# Altium footprint library xNEO_R_V1.PcbLib: 1 footprints
Each footprint in its own frame and in the unit in brackets; x right, y up, seen from the top. Pads: shape width x height; smd on the part's side, far side on the other; paste and mask are expansions set on the pad; w line width, h text height; cw(c..) or ccw(c..) is an arc to the next point about the centre after c.
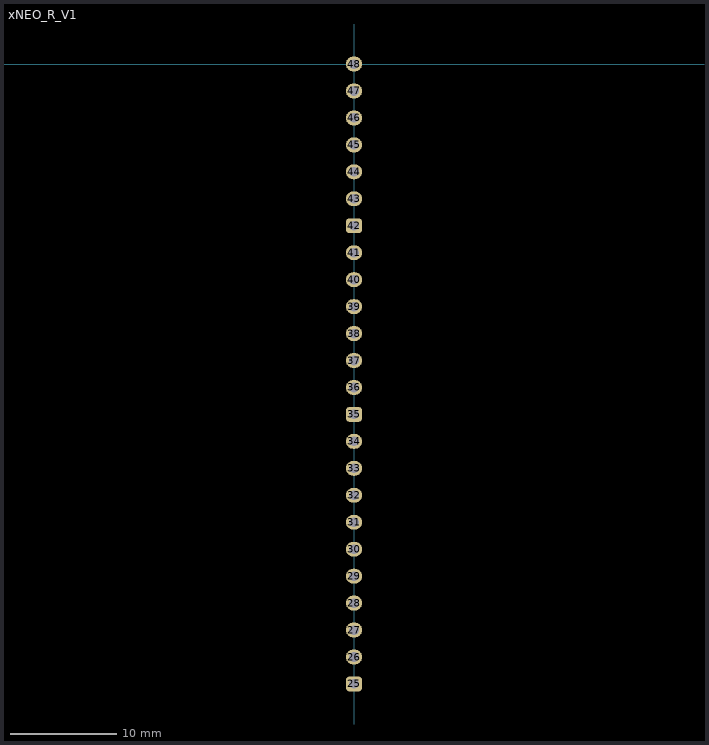
[diagram p0: the footprint, top view; thin cyan lines are the x and y axes]

## xNEO_R_V1 [mm] "2.54mm"
pads (24):
  rrect50% 1.55x1.4 hole 0.9 mask+0: 25(0,-58.42) 35(0,-33.02) 42(0,-15.24)
  oval 1.55x1.4 hole 0.9 mask+0: 26(0,-55.88) 27(0,-53.34) 28(0,-50.8) 29(0,-48.26) 30(0,-45.72) 31(0,-43.18) 32(0,-40.64) 33(0,-38.1) 34(0,-35.56) 36(0,-30.48) 37(0,-27.94) 38(0,-25.4) 39(0,-22.86) 40(0,-20.32) 41(0,-17.78) 43(0,-12.7) 44(0,-10.16) 45(0,-7.62) 46(0,-5.08) 47(0,-2.54) 48(0,0)